# Altium schematic symbol library SKRPABE010.SchLib: 1 symbol
Pins are listed as number, name and electrical type; pins without a type are passive.

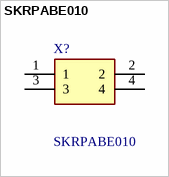
[diagram p0: symbol SKRPABE010]

## SKRPABE010
designator X?
Switch Tactile N.O. SPST Button J-Bend 0.05A 16VDC 1.57N SMD Automotive T/R; Manufacturer_Name: ALPS Electric; Geometry.Height: 2.5mm; RS Part Number: 9174087; RS Price/Stock: http://uk.rs-online.com/web/p/products/9174087; Manufacturer_Part_Number: SKRPABE010; Datasheet Link: http://uk.rs-online.com/web/p/products/9174087
footprint SKRPABE010
pins: 1, 2, 3, 4